# Altium schematic symbol library SPV0142LR5H-1.SchLib: 1 symbol
Pins are listed as number, name and electrical type; pins without a type are passive.

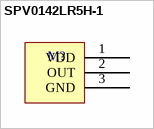
[diagram p0: symbol SPV0142LR5H-1]

## SPV0142LR5H-1
designator M?
footprint SPV0142LR5H-1
pins: 1 VDD, 2 OUT, 3 GND